# Altium footprint library zhao_PcbLib.PcbLib: 24 footprints (part 2 of 2)
Each footprint in its own frame and in the unit in brackets; x right, y up, seen from the top. Pads: shape width x height; smd on the part's side, far side on the other; paste and mask are expansions set on the pad; w line width, h text height; cw(c..) or ccw(c..) is an arc to the next point about the centre after c.
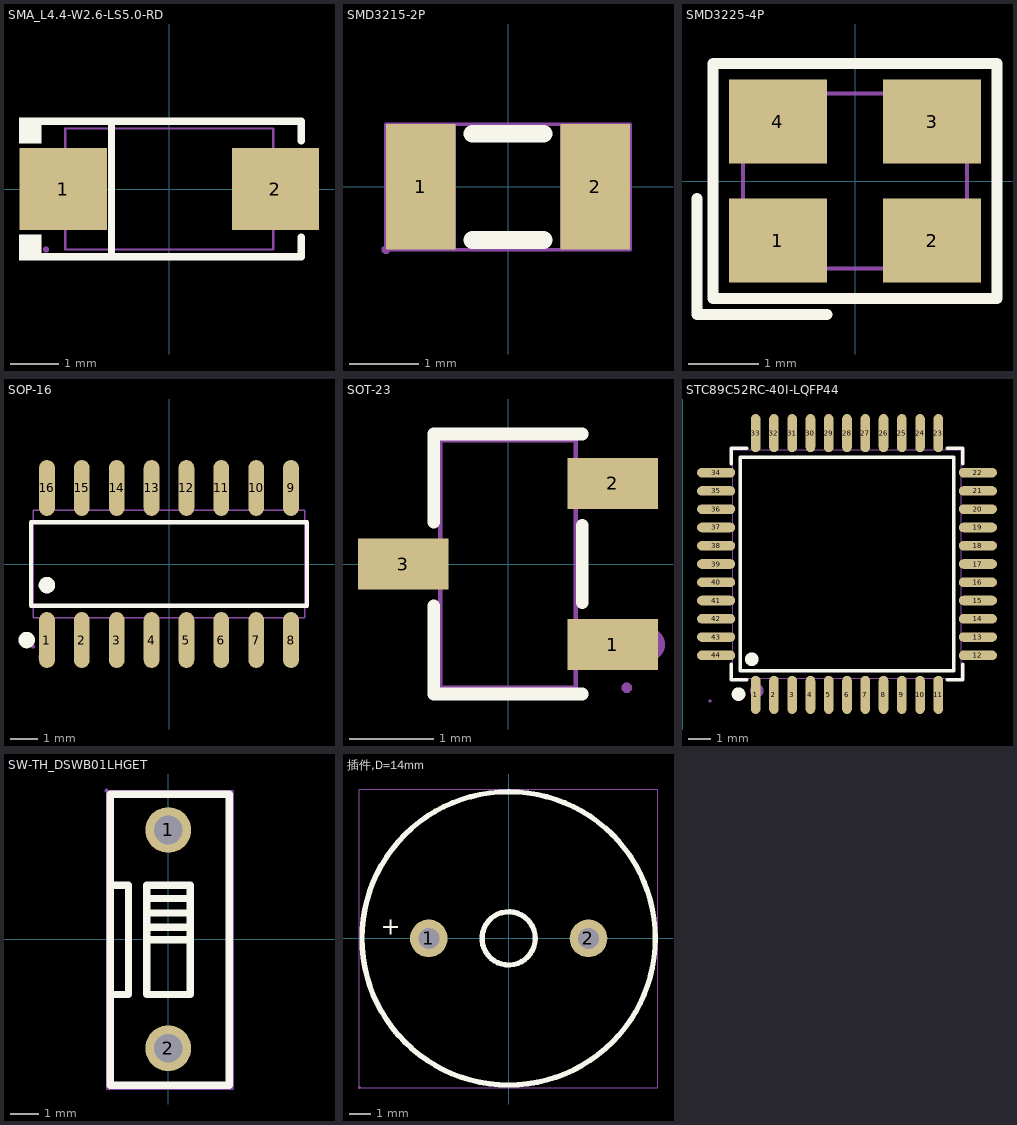
[diagram p1: the footprints below, top view; thin cyan lines are the x and y axes]

## SMA_L4.4-W2.6-LS5.0-RD [mm]
pads (2):
  rect 1.8x1.7 smd: 1(-2.192,0) 2(2.192,0)
Top Overlay:
  region: -2.65,1.477 -2.65,0.949 -3.107,0.949 -3.107,1.477
  region: -2.65,-1.477 -2.65,-0.949 -3.107,-0.949 -3.107,-1.477
  lines w0.152: -2.726,-1.401 2.726,-1.401 2.726,-1 ; -2.726,1.401 2.726,1.401 2.726,1 ; -1.197,-1.401 -1.197,1.401
Mechanical 6:
  region: -2.451,-0.099 -2.451,0.099 -1.656,0.099 -1.656,-0.099
  region: 2.451,-0.099 2.451,0.099 1.656,0.099 1.656,-0.099
  region: 2.153,-0.663 2.153,0.663 1.954,0.663 1.954,-0.663
Mechanical 15:
  region: -2.49,-1.25 -2.49,-1.225 -2.525,-1.19 -2.575,-1.19 -2.61,-1.225 -2.61,-1.25 -2.61,-1.275 -2.575,-1.31 -2.525,-1.31 -2.49,-1.275
  region: -1.35,0.725 -1.35,-0.725 -2.55,-0.725 -2.55,0.725
  region: 1.35,-0.725 1.35,0.725 2.55,0.725 2.55,-0.725
  lines w0.051: -2.15,-1.25 -2.15,1.25 2.15,1.25 2.15,-1.25 -2.15,-1.25

## SMD3215-2P [mm] "FC-135晶振"
pads (2):
  rect 1x1.8 smd: 1(-1.25,0) 2(1.25,0)
Top Overlay:
  lines w0.254: -0.508,-0.762 0.508,-0.762 ; -0.508,0.762 0.508,0.762
Mechanical 15:
  region: -1.69,-0.9 -1.69,-0.875 -1.725,-0.84 -1.775,-0.84 -1.81,-0.875 -1.81,-0.9 -1.81,-0.925 -1.775,-0.96 -1.725,-0.96 -1.69,-0.925
  region: 0.75,-0.9 0.75,0.9 1.75,0.9 1.75,-0.9
  region: -1.75,-0.9 -1.75,0.9 -0.75,0.9 -0.75,-0.9
  lines w0.051: -1.75,-0.9 -1.75,0.9 1.75,0.9 1.75,-0.9 -1.75,-0.9

## SMD3225-4P [mm]
pads (4):
  rect 1.4x1.2 smd: 1(-1.1,-0.85) 2(1.1,-0.85) 3(1.1,0.85) 4(-1.1,0.85)
Top Overlay:
  lines w0.152: -2.257,-0.25 -2.257,-1.907 -0.4,-1.907 ; -2.029,-1.678 -2.029,1.679 2.029,1.679 2.029,-1.678 -2.029,-1.678
Mechanical 6:
  circle w0.36: c-1.143,-0.889 r0.18
Mechanical 15:
  region: -1.54,-1.25 -1.54,-1.225 -1.575,-1.19 -1.625,-1.19 -1.66,-1.225 -1.66,-1.25 -1.66,-1.275 -1.625,-1.31 -1.575,-1.31 -1.54,-1.275
  region: -1.5,1.15 -0.6,1.15 -0.6,0.35 -1.5,0.35
  region: 0.6,1.15 1.5,1.15 1.5,0.35 0.6,0.35
  region: 0.6,-0.35 1.5,-0.35 1.5,-1.15 0.6,-1.15
  region: -1.5,-0.35 -0.6,-0.35 -0.6,-1.15 -1.5,-1.15
  lines w0.051: -1.6,-1.25 -1.6,1.25 1.6,1.25 1.6,-1.25 -1.6,-1.25

## SOP-16 [mm]
pads (16):
  oval 0.574x2.038 smd: 1(-4.445,-2.769) 2(-3.175,-2.769) 3(-1.905,-2.769) 4(-0.635,-2.769) 5(0.635,-2.769) 6(1.905,-2.769) 7(3.175,-2.769) 8(4.445,-2.769) 9(4.445,2.769) 10(3.175,2.769) 11(1.905,2.769) 12(0.635,2.769) 13(-0.635,2.769) 14(-1.905,2.769) 15(-3.175,2.769) 16(-4.445,2.769)
Top Overlay:
  circle w0.3: c-4.445,-0.769 r0.15
  circle w0.3: c-5.184,-2.769 r0.15
  lines w0.152: -5.026,-1.521 5.026,-1.521 5.026,1.521 -5.026,1.521 -5.026,-1.521
Mechanical 6:
  circle w0.3: c-4.445,-3.4 r0.15
Mechanical 15:
  drawing of 37 lines, arcs and shapes, not listed

## SOT-23 [mm]
pads (3):
  rect 1.07x0.6 smd paste+0 mask+0.051: 1(1.235,-0.95) 2(1.235,0.95) 3(-1.235,0)
Top Overlay:
  lines w0.152: -0.876,-0.495 -0.876,-1.536 0.876,-1.536 ; -0.876,0.495 -0.876,1.536 0.876,1.536 ; 0.876,-0.455 0.876,0.455
Mechanical 6:
  circle w0.2: c1.651,-0.95 r0.1
Mechanical 15:
  region: 1.46,-1.46 1.46,-1.435 1.425,-1.4 1.375,-1.4 1.34,-1.435 1.34,-1.46 1.34,-1.485 1.375,-1.52 1.425,-1.52 1.46,-1.485
  region: 0.95,-1.15 0.95,-0.75 1.4,-0.75 1.4,-1.15
  region: 0.79,-1.15 0.79,-0.75 0.96,-0.75 0.96,-1.15
  region: 0.95,0.75 0.95,1.15 1.4,1.15 1.4,0.75
  region: 0.79,0.75 0.79,1.15 0.96,1.15 0.96,0.75
  region: -0.95,-0.2 -0.95,0.2 -1.4,0.2 -1.4,-0.2
  region: -0.96,-0.2 -0.96,0.2 -0.79,0.2 -0.79,-0.2
  lines w0.051: -0.8,-1.46 -0.8,1.46 0.8,1.46 0.8,-1.46 -0.8,-1.46

## STC89C52RC-40I-LQFP44 [mm]
pads (44):
  oval 0.42x1.67 smd mask+0.051: 1(3.205,-18.85) 2(4.005,-18.85) 3(4.805,-18.85) 4(5.605,-18.85) 5(6.405,-18.85) 6(7.205,-18.85) 7(8.005,-18.85) 8(8.805,-18.85) 9(9.605,-18.85) 10(10.405,-18.85) 11(11.205,-18.85) 23(11.205,-7.38) 24(10.405,-7.38) 25(9.605,-7.38) 26(8.805,-7.38) 27(8.005,-7.38) 28(7.205,-7.38) 29(6.405,-7.38) 30(5.605,-7.38) 31(4.805,-7.38) 32(4.005,-7.38) 33(3.205,-7.38)
  oval 1.67x0.42 smd mask+0.051: 12(12.94,-17.115) 13(12.94,-16.315) 14(12.94,-15.515) 15(12.94,-14.715) 16(12.94,-13.915) 17(12.94,-13.115) 18(12.94,-12.315) 19(12.94,-11.515) 20(12.94,-10.715) 21(12.94,-9.915) 22(12.94,-9.115) 34(1.47,-9.115) 35(1.47,-9.915) 36(1.47,-10.715) 37(1.47,-11.515) 38(1.47,-12.315) 39(1.47,-13.115) 40(1.47,-13.915) 41(1.47,-14.715) 42(1.47,-15.515) 43(1.47,-16.315) 44(1.47,-17.115)
Top Overlay:
  circle w0.3: c3.034,-17.286 r0.15
  circle w0.3: c2.455,-18.815 r0.15
  lines w0.152: 2.129,-17.515 2.129,-18.191 2.805,-18.191 ; 2.129,-8.714 2.129,-8.039 2.805,-8.039 ; 11.606,-18.191 12.281,-18.191 12.281,-17.515 ; 11.606,-8.039 12.281,-8.039 12.281,-8.714 ; 2.534,-17.786 11.876,-17.786 11.876,-8.444 2.534,-8.444 2.534,-17.786
Mechanical 6:
  circle w0.3: c3.255,-18.665 r0.15
Mechanical 15:
  drawing of 93 lines, arcs and shapes, not listed

## SW-TH_DSWB01LHGET [mm] "插件"
pads (2):
  round 1.6 hole 1: 1(0,3.81) 2(0,-3.81)
Top Overlay:
  lines w0.254: -2.022,1.879 -1.387,1.879 -1.387,-1.931 -2.022,-1.931 ; -0.761,0.415 0.639,0.415 ; -0.761,0.915 0.639,0.915 ; -0.72,-0.026 0.68,-0.026 ; -0.702,1.415 0.698,1.415 ; -2.022,-1.931 -2.022,-5.106 2.134,-5.106 2.134,5.054 -2.022,5.054 -2.022,-1.931 ; -0.752,-1.931 0.772,-1.931 0.772,1.879 -0.752,1.879 -0.752,-1.931
Mechanical 6:
  text "1" at -0.178,-2.568 h0.33
Mechanical 15:
  region: 0.4,-3.81 0.4,-3.73 0.339,-3.583 0.227,-3.471 0.08,-3.41 -0.08,-3.41 -0.227,-3.471 -0.339,-3.583 -0.4,-3.73 -0.4,-3.81 -0.4,-3.89 -0.339,-4.037 -0.227,-4.149 -0.08,-4.21 0.08,-4.21 0.227,-4.149 0.339,-4.037 0.4,-3.89 0.4,-3.81
  region: 0.4,3.81 0.4,3.89 0.339,4.037 0.227,4.149 0.08,4.21 -0.08,4.21 -0.227,4.149 -0.339,4.037 -0.4,3.89 -0.4,3.81 -0.4,3.73 -0.339,3.583 -0.227,3.471 -0.08,3.41 0.08,3.41 0.227,3.471 0.339,3.583 0.4,3.73 0.4,3.81
  region: -2.089,5.181 -2.089,5.206 -2.124,5.241 -2.174,5.241 -2.209,5.206 -2.209,5.181 -2.209,5.156 -2.174,5.121 -2.124,5.121 -2.089,5.156 -2.089,5.181
  lines w0.051: -2.149,-5.233 2.261,-5.233 2.261,5.181 -2.149,5.181 -2.149,-5.233

## 插件,D=14mm [mm] "蜂鸣器"
pads (2):
  round 1.8 hole 1: 1(-3.81,0) 2(3.81,0)
Top Overlay:
  circle w0.254: c0,0 r1.27
  circle w0.254: c0,0 r7
  text "+" at -6.096,0.165 h0.83
Mechanical 15:
  region: -7.067,-7.127 -7.067,-7.102 -7.102,-7.067 -7.152,-7.067 -7.187,-7.102 -7.187,-7.127 -7.187,-7.152 -7.152,-7.187 -7.102,-7.187 -7.067,-7.152
  region: 4.21,0 4.21,0.08 4.149,0.227 4.037,0.339 3.89,0.4 3.731,0.4 3.583,0.339 3.471,0.227 3.41,0.08 3.41,0 3.41,-0.08 3.471,-0.227 3.583,-0.339 3.731,-0.4 3.89,-0.4 4.037,-0.339 4.149,-0.227 4.21,-0.08
  region: -3.41,0 -3.41,0.08 -3.471,0.227 -3.584,0.339 -3.731,0.4 -3.89,0.4 -4.037,0.339 -4.149,0.227 -4.21,0.08 -4.21,0 -4.21,-0.08 -4.149,-0.227 -4.037,-0.339 -3.89,-0.4 -3.731,-0.4 -3.584,-0.339 -3.471,-0.227 -3.41,-0.08
  lines w0.051: -7.127,-7.127 -7.127,7.127 7.127,7.127 7.127,-7.127 -7.127,-7.127